# Altium footprint library URM07.PcbLib: 1 footprints
Each footprint in its own frame and in the unit in brackets; x right, y up, seen from the top. Pads: shape width x height; smd on the part's side, far side on the other; paste and mask are expansions set on the pad; w line width, h text height; cw(c..) or ccw(c..) is an arc to the next point about the centre after c.
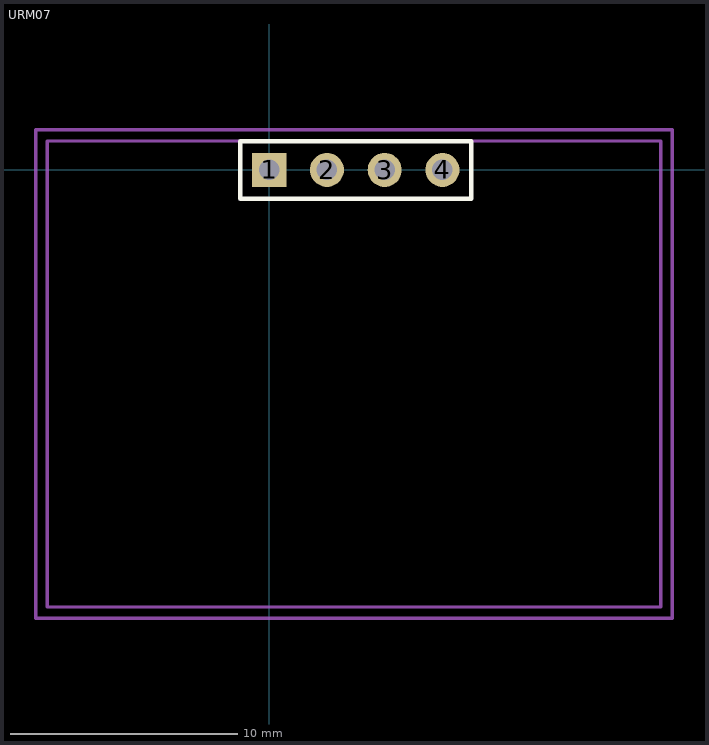
[diagram p0: the footprint, top view; thin cyan lines are the x and y axes]

## URM07 [mm]
pads (4):
  rect 1.5x1.5 hole 0.9: 1(0,0)
  round 1.5 hole 0.9: 2(2.54,0) 3(5.08,0) 4(7.62,0)
Top Overlay:
  lines w0.2: -1.27,-1.27 8.89,-1.27 8.89,1.27 -1.27,1.27 -1.27,-1.27
Top Assembly:
  lines w0.15: -9.77,-19.23 -9.77,1.27 17.23,1.27 17.23,-19.23 -9.77,-19.23
Top Courtyard:
  lines w0.15: -10.27,-19.73 17.73,-19.73 17.73,1.77 -10.27,1.77 -10.27,-19.73
3D body "m20-9750446_asm.stp": height 4.82, standoff -5.2, extent -1.35,-4.27 8.81,1.27
3D body: height 27, standoff 2, extent -9.77,-3.23 17.23,-1.63
3D body: height 23.5, standoff 7.5, extent -4.27,-19.23 11.73,-3.23